# Altium schematic symbol library TC2030.SchLib: 1 symbol
Pins are listed as number, name and electrical type; pins without a type are passive.

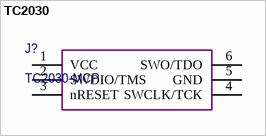
[diagram p0: symbol TC2030]

## TC2030
designator J?, comment TC2030-MCP  (no BOM)
pins: 1 VCC, 2 SWDIO/TMS, 3 nRESET, 4 SWCLK/TCK, 5 GND, 6 SWO/TDO